# Altium schematic symbol library MP2322GQH-P.SchLib: 1 symbol
Pins are listed as number, name and electrical type; pins without a type are passive.

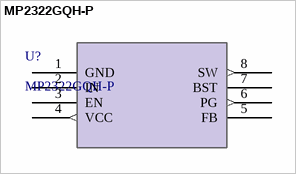
[diagram p0: symbol MP2322GQH-P]

## MP2322GQH-P
designator U?
1A 3V to 22V 5Î¼A IQ Synchronous Step-Down Converter in a QFN-8 (1.5mmx2mm) Package; Manufacturer_Name: Monolithic Power Systems; Copyright: Copyright (C) 2025 Ultra Librarian. All rights reserved.; Manufacturer_Part_Number: MP2322GQH-P; Datasheet: https://www.monolithicpower.com/en/documentview/productdocument/index/version/2/document_type/Datasheet/lang/en/sku/MP2322; RefDes: RefDes; Type: Type
footprint QFN-8_1p5MMx2MM_MNP
pins: 1 GND (power), 2 IN (power), 3 EN, 4 VCC (out), 5 FB, 6 PG (out), 7 BST, 8 SW (out)